# EAGLE library part ES_3310 (library Electrosmith-Boards)
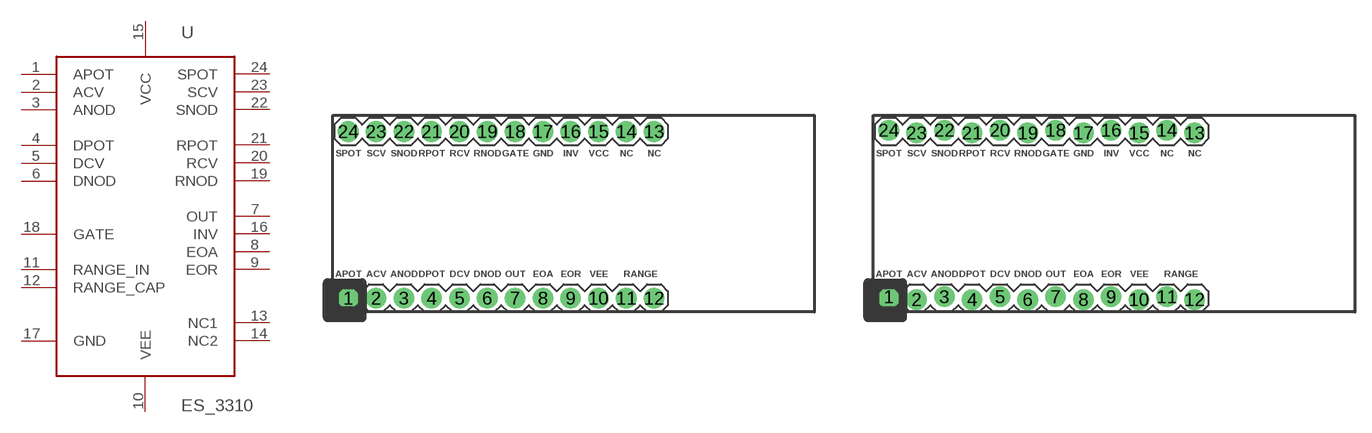
[diagram p11: symbol with the pads of ES_3310; footprints ES_3310, ES_3310_LOCK]

Designator prefix U

## ES_3310  [ES_3310]
1  APOT
2  ACV
3  ANOD
4  DPOT
5  DCV
6  DNOD
7  OUT
8  EOA
9  EOR
10  VEE
11  RANGE_IN
12  RANGE_CAP
13  NC1
14  NC2
15  VCC
16  INV
17  GND
18  GATE
19  RNOD
20  RCV
21  RPOT
22  SNOD
23  SCV
24  SPOT

## ES_3310_LOCK  [ES_3310_LOCK]
Pads as for ES_3310

## Footprint ES_3310 (pad centres in mm)
drill 1.016 pad 1.88 square: 1 1.395,1.268
drill 1.016 pad 1.88: 2 3.935,1.268; 3 6.475,1.268; 4 9.015,1.268; 5 11.555,1.268; 6 14.095,1.268; 7 16.635,1.268; 8 19.175,1.268; 9 21.715,1.268; 10 24.255,1.268; 11 26.795,1.268; 12 29.335,1.268; 13 29.335,16.508; 14 26.795,16.508; 15 24.255,16.508; 16 21.715,16.508; 17 19.175,16.508; 18 16.635,16.508; 19 14.095,16.508; 20 11.555,16.508; 21 9.015,16.508; 22 6.475,16.508; 23 3.935,16.508; 24 1.395,16.508

## Footprint ES_3310_LOCK (pad centres in mm)
drill 1.016 pad 1.88 square: 1 1.395,1.395
drill 1.016 pad 1.88: 2 3.935,1.141; 3 6.475,1.395; 4 9.015,1.141; 5 11.555,1.395; 6 14.095,1.141; 7 16.635,1.395; 8 19.175,1.141; 9 21.715,1.395; 10 24.255,1.141; 11 26.795,1.395; 12 29.335,1.141; 13 29.335,16.381; 14 26.795,16.635; 15 24.255,16.381; 16 21.715,16.635; 17 19.175,16.381; 18 16.635,16.635; 19 14.095,16.381; 20 11.555,16.635; 21 9.015,16.381; 22 6.475,16.635; 23 3.935,16.381; 24 1.395,16.635